# Altium schematic symbol library 1x8 Header.SchLib: 1 symbol
Pins are listed as number, name and electrical type; pins without a type are passive.

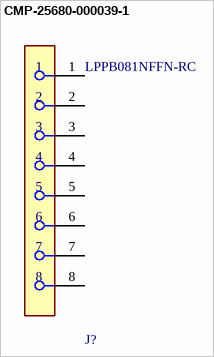
[diagram p0: symbol CMP-25680-000039-1]

## CMP-25680-000039-1
designator J?, comment LPPB081NFFN-RC
CONN HDR 8POS 0.05 GOLD PCB; Connector Type: Header; Pitch: 0.05inch; Number of Positions: 8; Packaging: Bulk; Contact Type: Female Socket; Termination: Solder; RoHS Compliant: Yes; Lead Free: Lead Free; Package Quantity: 1; Mount: Through Hole; Contact Plating: Gold; Number of Rows: 1
footprint FP-LPPB081NFFN-RC-MFG
pins: 1, 2, 3, 4, 5, 6, 7, 8